# Altium footprint library PcbLib1.PcbLib: 3 footprints
Each footprint in its own frame and in the unit in brackets; x right, y up, seen from the top. Pads: shape width x height; smd on the part's side, far side on the other; paste and mask are expansions set on the pad; w line width, h text height; cw(c..) or ccw(c..) is an arc to the next point about the centre after c.
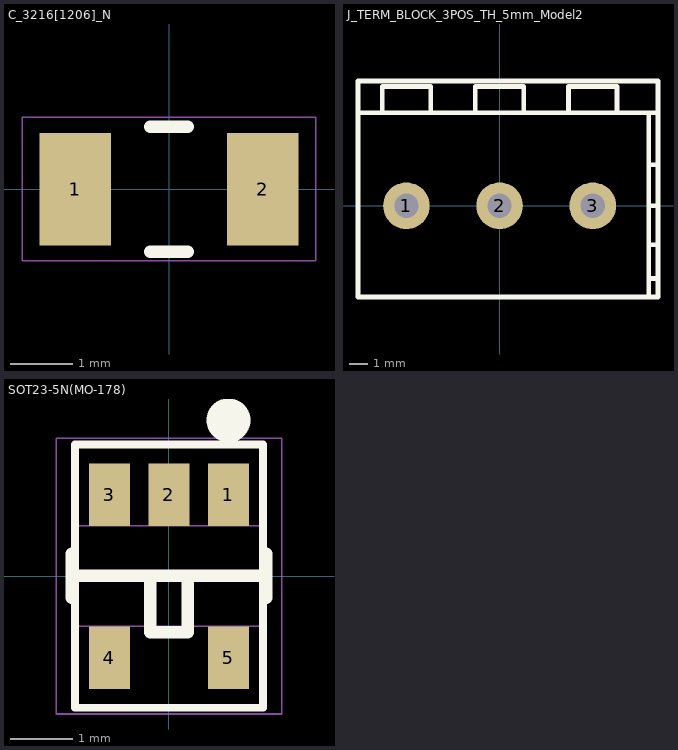
[diagram p0: the footprints below, top view; thin cyan lines are the x and y axes]

## C_3216[1206]_N [mm]
pads (2):
  rect 1.15x1.8 smd: 1(-1.5,0) 2(1.5,0)
Top Overlay:
  lines w0.2: -0.3,-1 0.3,-1 ; -0.3,1 0.3,1
Mechanical 15:
  lines w0.025: -2.35,-1.15 2.35,-1.15 2.35,1.15 -2.35,1.15 -2.35,-1.15
3D body "SW3dPS-1206 SMD Capacitor.STEP": height 1, standoff 0, extent -1.6,-0.8 1.6,0.8

## J_TERM_BLOCK_3POS_TH_5mm_Model2 [mm] "Terminal Block 3 positions Throught hole"
height 15
pads (3):
  round 2.5 hole 1.3: 1(-5,0) 2(0,0) 3(5,0)
Top Overlay:
  lines w0.25: -7.6,5 8.5,5 ; -6.3,5.1 -6.3,6.4 -3.7,6.4 -3.7,5.1 ; -1.3,5.1 -1.3,6.4 1.3,6.4 1.3,5.1 ; 3.7,5.1 3.7,6.4 6.3,6.4 6.3,5.1 ; 8,-4.9 8,5 ; 8,-3.9 8.5,-3.9 ; 8,-2.1 8.5,-2.1 ; 8,0 8.5,0 ; 8,2.2 8.5,2.2 ; -7.6,-4.9 -7.6,6.7 8.5,6.7 8.5,-4.9 -7.6,-4.9
3D body "pxc_1890976_02_MKDSN-2-5-3_3D.stp": height 15.1, standoff -3.4, extent -7.485,-4.8 8.085,4.7

## SOT23-5N(MO-178) [mm]
height 1.45
pads (5):
  rect 0.66x1 smd: 1(0.95,1.3) 2(0,1.3) 3(-0.95,1.3) 4(-0.95,-1.3) 5(0.95,-1.3)
Top Overlay:
  circle w0.5: c0.95,2.488 r0.1
  lines w0.125: -1.5,-2.1 -1.5,2.1 1.5,2.1 1.5,-2.1 -1.5,-2.1
  lines w0.2: -1.55,-0.346 -1.55,0.354 ; -1.55,0.004 1.55,0.004 ; -0.3,0.004 -0.3,-0.896 0.3,-0.896 0.3,0.004 ; 1.55,-0.346 1.55,0.354
Mechanical 15:
  lines w0.02: -1.45,-0.796 1.45,-0.796 1.45,0.804 -1.45,0.804 -1.45,-0.796
  lines w0.025: -1.8,-2.2 1.8,-2.2 1.8,2.2 -1.8,2.2 -1.8,-2.2
3D body "User Library-SOT23-5-2.STEP": height 1.45, standoff 0, extent -1.45,-1.4 1.45,1.4